# Altium schematic symbol library ERJ-2RHD1401X.SchLib: 1 symbol
Pins are listed as number, name and electrical type; pins without a type are passive.

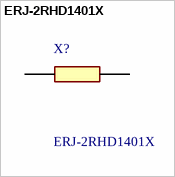
[diagram p0: symbol ERJ-2RHD1401X]

## ERJ-2RHD1401X
designator X?
PANASONIC - ERJ2RHD1401X - SMD Chip Resistor, 1.4 kohm, +/- 0.5%, 62.5 mW, 0402 [1005 Metric], Thick Film, Precision; Geometry.Height: 0.4mm; Mouser Part Number: 667-ERJ-2RHD1401X; Mouser Price/Stock: https://www.mouser.co.uk/ProductDetail/Panasonic/ERJ-2RHD1401X/?qs=pfd5qewlna6909D37C4OaA%3D%3D; Manufacturer_Name: Panasonic; Manufacturer_Part_Number: ERJ-2RHD1401X; Datasheet Link: *
footprint ERJ2RKD1004X
pins: 1, 2